# Altium footprint library WR-PHD_Pin Header.PcbLib: 232 footprints (part 13 of 15)
Each footprint in its own frame and in the unit in brackets; x right, y up, seen from the top. Pads: shape width x height; smd on the part's side, far side on the other; paste and mask are expansions set on the pad; w line width, h text height; cw(c..) or ccw(c..) is an arc to the next point about the centre after c.
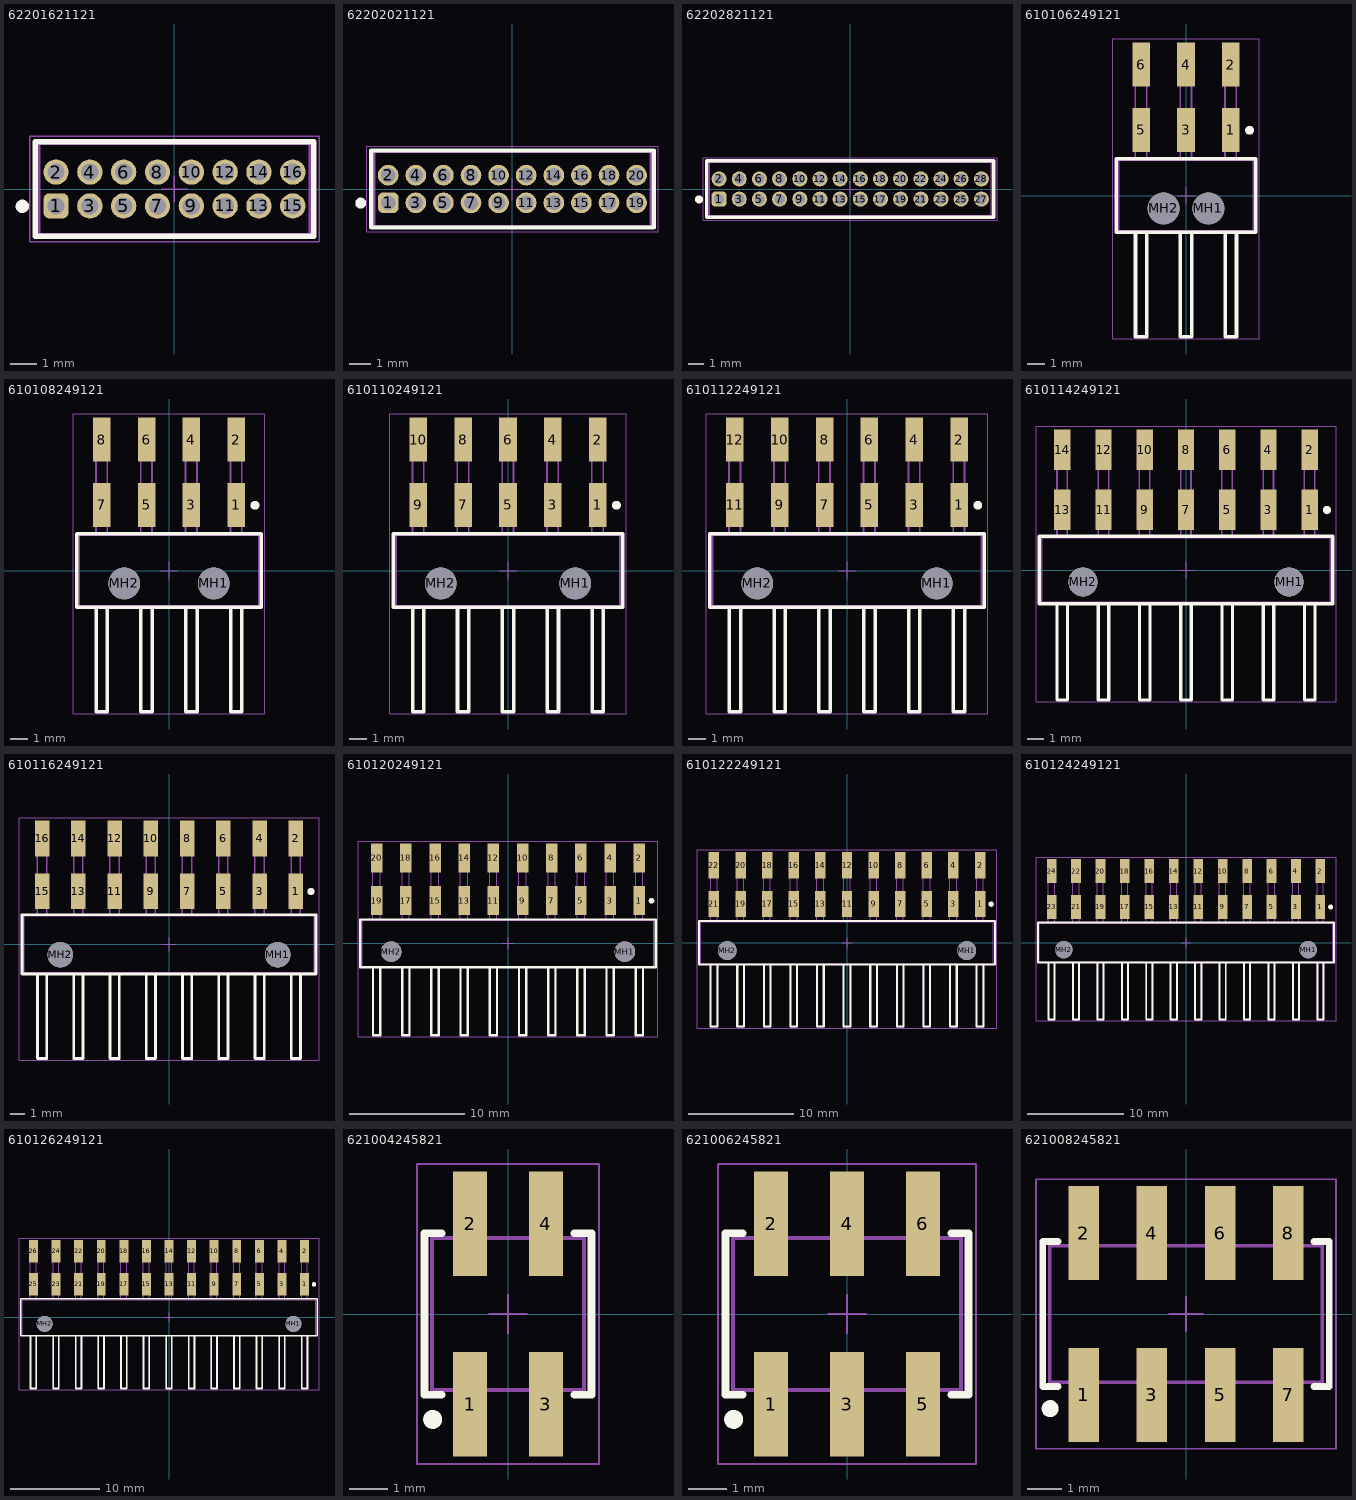
[diagram p12: the footprints below, top view; thin cyan lines are the x and y axes]

## 62201621121 [mm] "Pin Header, pitch 1.27 mm, THT, Vertical, dual row, 16p"
height 5.65
pads (16):
  rrect50% 0.95x0.95 hole 0.65: 1(-4.445,-0.635)
  round 0.95 hole 0.65: 2(-4.445,0.635) 3(-3.175,-0.635) 4(-3.175,0.635) 5(-1.905,-0.635) 6(-1.905,0.635) 7(-0.635,-0.635) 8(-0.635,0.635) 9(0.635,-0.635) 10(0.635,0.635) 11(1.905,-0.635) 12(1.905,0.635) 13(3.175,-0.635) 14(3.175,0.635) 15(4.445,-0.635) 16(4.445,0.635)
Top Overlay:
  circle w0.25: c-5.71,-0.65 r0.125
  lines w0.2: -5.23,-1.775 5.23,-1.775 5.23,1.775 -5.23,1.775 -5.23,-1.775
Top Designator:
  text ".Designator" at -7.498,-0.5 h1.5
Top Component Outline:
  lines w0.1: -5.08,-1.7 5.08,-1.7 5.08,1.7 -5.08,1.7 -5.08,-1.7
Top Courtyard:
  lines w0.05: -5.43,-1.975 5.43,-1.975 5.43,1.975 -5.43,1.975 -5.43,-1.975
Top Component Center:
  lines w0.05: -0.5,0 0.5,0 ; 0,-0.5 0,0.5
3D body "62201621121.stp": height 5.33, standoff -2.27, extent -5.08,-1.7 5.08,1.7

## 62202021121 [mm] "Pin Header, pitch 1.27 mm, THT, Vertical, dual row, 20p"
height 5.65
pads (20):
  rrect50% 0.95x0.95 hole 0.65: 1(-5.715,-0.635)
  round 0.95 hole 0.65: 2(-5.715,0.635) 3(-4.445,-0.635) 4(-4.445,0.635) 5(-3.175,-0.635) 6(-3.175,0.635) 7(-1.905,-0.635) 8(-1.905,0.635) 9(-0.635,-0.635) 10(-0.635,0.635) 11(0.635,-0.635) 12(0.635,0.635) 13(1.905,-0.635) 14(1.905,0.635) 15(3.175,-0.635) 16(3.175,0.635) 17(4.445,-0.635) 18(4.445,0.635) 19(5.715,-0.635) 20(5.715,0.635)
Top Overlay:
  circle w0.25: c-6.98,-0.65 r0.125
  lines w0.2: -6.5,-1.775 6.5,-1.775 6.5,1.775 -6.5,1.775 -6.5,-1.775
Top Designator:
  text ".Designator" at -7.498,-0.5 h1.5
Top Component Outline:
  lines w0.1: -6.35,-1.7 6.35,-1.7 6.35,1.7 -6.35,1.7 -6.35,-1.7
Top Courtyard:
  lines w0.05: -6.7,-1.975 6.7,-1.975 6.7,1.975 -6.7,1.975 -6.7,-1.975
Top Component Center:
  lines w0.05: -0.5,0 0.5,0 ; 0,-0.5 0,0.5
3D body "62202021121.stp": height 5.33, standoff -2.27, extent -6.35,-1.7 6.35,1.7

## 62202821121 [mm] "Pin Header, pitch 1.27 mm, THT, Vertical, dual row, 28p"
height 5.65
pads (28):
  rrect50% 0.95x0.95 hole 0.65: 1(-8.255,-0.635)
  round 0.95 hole 0.65: 2(-8.255,0.635) 3(-6.985,-0.635) 4(-6.985,0.635) 5(-5.715,-0.635) 6(-5.715,0.635) 7(-4.445,-0.635) 8(-4.445,0.635) 9(-3.175,-0.635) 10(-3.175,0.635) 11(-1.905,-0.635) 12(-1.905,0.635) 13(-0.635,-0.635) 14(-0.635,0.635) 15(0.635,-0.635) 16(0.635,0.635) 17(1.905,-0.635) 18(1.905,0.635) 19(3.175,-0.635) 20(3.175,0.635) 21(4.445,-0.635) 22(4.445,0.635) 23(5.715,-0.635) 24(5.715,0.635) 25(6.985,-0.635) 26(6.985,0.635) 27(8.255,-0.635) 28(8.255,0.635)
Top Overlay:
  circle w0.25: c-9.52,-0.65 r0.125
  lines w0.2: -9.04,-1.775 9.04,-1.775 9.04,1.775 -9.04,1.775 -9.04,-1.775
Top Designator:
  text ".Designator" at -7.498,-0.5 h1.5
Top Component Outline:
  lines w0.1: -8.89,-1.7 8.89,-1.7 8.89,1.7 -8.89,1.7 -8.89,-1.7
Top Courtyard:
  lines w0.05: -9.24,-1.975 9.24,-1.975 9.24,1.975 -9.24,1.975 -9.24,-1.975
Top Component Center:
  lines w0.05: -0.5,0 0.5,0 ; 0,-0.5 0,0.5
3D body "62202821121.stp": height 5.33, standoff -2.27, extent -8.89,-1.7 8.89,1.7

## 610106249121 [mm] "Pin Header, pitch 2.54 mm, SMD, Angled, dual row, 6p"
height 5.08
pads (8):
  rect 1x2.5 smd: 1(2.54,3.72) 2(2.54,7.42) 3(0,3.72) 4(0,7.42) 5(-2.54,3.72) 6(-2.54,7.42)
  round 1.8 hole 1.8 unplated: MH1(1.27,-0.73) MH2(-1.27,-0.73)
Top Overlay:
  circle w0.25: c3.6,3.7 r0.125
  lines w0.2: -2.86,-2.075 -2.86,-8 -2.22,-8 -2.22,-2.075 ; -0.32,-2.075 -0.32,-8 0.32,-8 0.32,-2.075 ; 2.22,-2.075 2.22,-8 2.86,-8 2.86,-2.075 ; -3.96,-2.075 -3.96,2.075 3.96,2.075 3.96,-2.075 -3.96,-2.075
Top Designator:
  text ".Designator" at -7.498,-0.5 h1.5
Top Component Outline:
  lines w0.1: -2.87,2 -2.87,8.16 ; -2.87,4.135 -2.87,4.26 ; -2.87,4.48 -2.23,4.48 ; -2.87,7.535 -2.87,7.815 -2.87,8.16 ; -2.86,-2 -2.86,-8 -2.22,-8 -2.22,-2 ; -2.23,2 -2.23,8.16 ; -2.23,4.135 -2.23,4.26 ; -2.23,7.535 -2.23,7.815 -2.23,8.16 ; -0.33,2 -0.33,8.16 ; -0.33,4.135 -0.33,4.26 ; -0.33,4.48 0.31,4.48 ; -0.33,7.535 -0.33,7.815 -0.33,8.16 ; -0.32,-2 -0.32,-8 0.32,-8 0.32,-2 ; 0.31,2 0.31,8.16 ; 0.31,4.135 0.31,4.26 ; 0.31,7.535 0.31,7.815 0.31,8.16 ; 2.21,2 2.21,8.16 ; 2.21,4.135 2.21,4.26 ; 2.21,4.48 2.85,4.48 ; 2.21,7.535 2.21,7.815 2.21,8.16 ; 2.22,-2 2.22,-8 2.86,-8 2.86,-2 ; 2.85,2 2.85,8.16 ; 2.85,4.135 2.85,4.26 ; 2.85,7.535 2.85,7.815 2.85,8.16 ; -2.87,8.16 -2.23,8.16 ; -0.33,8.16 0.31,8.16 ; 2.21,8.16 2.85,8.16 ; -3.81,-2 3.81,-2 3.81,2 -3.81,2 -3.81,-2
Top Courtyard:
  lines w0.05: -4.16,-8.125 -4.16,8.87 4.16,8.87 4.16,-8.125 -4.16,-8.125
Top Component Center:
  lines w0.05: -0.5,0 0.5,0 ; 0,-0.5 0,0.5
3D body "610106249121.stp": height 5.1, standoff -1.38, extent -3.81,-8 3.81,8.16

## 610108249121 [mm] "Pin Header, pitch 2.54 mm, SMD, Angled, dual row, 8p"
height 5.08
pads (10):
  rect 1x2.5 smd: 1(3.81,3.72) 2(3.81,7.42) 3(1.27,3.72) 4(1.27,7.42) 5(-1.27,3.72) 6(-1.27,7.42) 7(-3.81,3.72) 8(-3.81,7.42)
  round 1.8 hole 1.8 unplated: MH1(2.54,-0.73) MH2(-2.54,-0.73)
Top Overlay:
  circle w0.25: c4.87,3.7 r0.125
  lines w0.2: -4.13,-2.075 -4.13,-8 -3.49,-8 -3.49,-2.075 ; -1.59,-2.075 -1.59,-8 -0.95,-8 -0.95,-2.075 ; 0.95,-2.075 0.95,-8 1.59,-8 1.59,-2.075 ; 3.49,-2.075 3.49,-8 4.13,-8 4.13,-2.075 ; -5.23,-2.075 5.23,-2.075 5.23,2.075 -5.23,2.075 -5.23,-2.075
Top Designator:
  text ".Designator" at -7.498,-0.5 h1.5
Top Component Outline:
  lines w0.1: -4.14,2 -4.14,8.16 ; -4.14,4.135 -4.14,4.26 ; -4.14,4.48 -3.5,4.48 ; -4.14,7.535 -4.14,7.815 -4.14,8.16 ; -4.13,-2 -4.13,-8 -3.49,-8 -3.49,-2 ; -3.5,2 -3.5,8.16 ; -3.5,4.135 -3.5,4.26 ; -3.5,7.535 -3.5,7.815 -3.5,8.16 ; -1.6,2 -1.6,8.16 ; -1.6,4.135 -1.6,4.26 ; -1.6,4.48 -0.96,4.48 ; -1.6,7.535 -1.6,7.815 -1.6,8.16 ; -1.59,-2 -1.59,-8 -0.95,-8 -0.95,-2 ; -0.96,2 -0.96,8.16 ; -0.96,4.135 -0.96,4.26 ; -0.96,7.535 -0.96,7.815 -0.96,8.16 ; 0.94,2 0.94,8.16 ; 0.94,4.135 0.94,4.26 ; 0.94,4.48 1.58,4.48 ; 0.94,7.535 0.94,7.815 0.94,8.16 ; 0.95,-2 0.95,-8 1.59,-8 1.59,-2 ; 1.58,2 1.58,8.16 ; 1.58,4.135 1.58,4.26 ; 1.58,7.535 1.58,7.815 1.58,8.16 ; 3.48,2 3.48,8.16 ; 3.48,4.135 3.48,4.26 ; 3.48,4.48 4.12,4.48 ; 3.48,7.535 3.48,7.815 3.48,8.16 ; 3.49,-2 3.49,-8 4.13,-8 4.13,-2 ; 4.12,2 4.12,8.16 ; 4.12,4.135 4.12,4.26 ; 4.12,7.535 4.12,7.815 4.12,8.16 ; -4.14,8.16 -3.5,8.16 ; -1.6,8.16 -0.96,8.16 ; 0.94,8.16 1.58,8.16 ; 3.48,8.16 4.12,8.16 ; -5.08,-2 5.08,-2 5.08,2 -5.08,2 -5.08,-2
Top Courtyard:
  lines w0.05: -5.43,-8.125 5.43,-8.125 5.43,8.87 -5.43,8.87 -5.43,-8.125
Top Component Center:
  lines w0.05: -0.5,0 0.5,0 ; 0,-0.5 0,0.5
3D body "610108249121.stp": height 5.1, standoff -1.38, extent -5.08,-8 5.08,8.16

## 610110249121 [mm] "Pin Header, pitch 2.54 mm, SMD, Angled, dual row, 10p"
height 5.08
pads (12):
  rect 1x2.5 smd: 1(5.08,3.72) 2(5.08,7.42) 3(2.54,3.72) 4(2.54,7.42) 5(0,3.72) 6(0,7.42) 7(-2.54,3.72) 8(-2.54,7.42) 9(-5.08,3.72) 10(-5.08,7.42)
  round 1.8 hole 1.8 unplated: MH1(3.81,-0.73) MH2(-3.81,-0.73)
Top Overlay:
  circle w0.25: c6.14,3.7 r0.125
  lines w0.2: -5.4,-2.075 -5.4,-8 -4.76,-8 -4.76,-2.075 ; -2.86,-2.075 -2.86,-8 -2.22,-8 -2.22,-2.075 ; -0.32,-2.075 -0.32,-8 0.32,-8 0.32,-2.075 ; 2.22,-2.075 2.22,-8 2.86,-8 2.86,-2.075 ; 4.76,-2.075 4.76,-8 5.4,-8 5.4,-2.075 ; -6.5,-2.075 -6.5,2.075 6.5,2.075 6.5,-2.075 -6.5,-2.075
Top Designator:
  text ".Designator" at -7.498,-0.5 h1.5
Top Component Outline:
  lines w0.1: -5.41,2 -5.41,8.16 ; -5.41,4.135 -5.41,4.26 ; -5.41,4.48 -4.77,4.48 ; -5.41,7.535 -5.41,7.815 -5.41,8.16 ; -5.4,-2 -5.4,-8 -4.76,-8 -4.76,-2 ; -4.77,2 -4.77,8.16 ; -4.77,4.135 -4.77,4.26 ; -4.77,7.535 -4.77,7.815 -4.77,8.16 ; -2.87,2 -2.87,8.16 ; -2.87,4.135 -2.87,4.26 ; -2.87,4.48 -2.23,4.48 ; -2.87,7.535 -2.87,7.815 -2.87,8.16 ; -2.86,-2 -2.86,-8 -2.22,-8 -2.22,-2 ; -2.23,2 -2.23,8.16 ; -2.23,4.135 -2.23,4.26 ; -2.23,7.535 -2.23,7.815 -2.23,8.16 ; -0.33,2 -0.33,8.16 ; -0.33,4.135 -0.33,4.26 ; -0.33,4.48 0.31,4.48 ; -0.33,7.535 -0.33,7.815 -0.33,8.16 ; -0.32,-2 -0.32,-8 0.32,-8 0.32,-2 ; 0.31,2 0.31,8.16 ; 0.31,4.135 0.31,4.26 ; 0.31,7.535 0.31,7.815 0.31,8.16 ; 2.21,2 2.21,8.16 ; 2.21,4.135 2.21,4.26 ; 2.21,4.48 2.85,4.48 ; 2.21,7.535 2.21,7.815 2.21,8.16 ; 2.22,-2 2.22,-8 2.86,-8 2.86,-2 ; 2.85,2 2.85,8.16 ; 2.85,4.135 2.85,4.26 ; 2.85,7.535 2.85,7.815 2.85,8.16 ; 4.75,2 4.75,8.16 ; 4.75,4.135 4.75,4.26 ; 4.75,4.48 5.39,4.48 ; 4.75,7.535 4.75,7.815 4.75,8.16 ; 4.76,-2 4.76,-8 5.4,-8 5.4,-2 ; 5.39,2 5.39,8.16 ; 5.39,4.135 5.39,4.26 ; 5.39,7.535 5.39,7.815 5.39,8.16 ; -5.41,8.16 -4.77,8.16 ; -2.87,8.16 -2.23,8.16 ; -0.33,8.16 0.31,8.16 ; 2.21,8.16 2.85,8.16 ; 4.75,8.16 5.39,8.16 ; -6.35,-2 6.35,-2 6.35,2 -6.35,2 -6.35,-2
Top Courtyard:
  lines w0.05: -6.7,-8.125 -6.7,8.87 6.7,8.87 6.7,-8.125 -6.7,-8.125
Top Component Center:
  lines w0.05: -0.5,0 0.5,0 ; 0,-0.5 0,0.5
3D body "610110249121.stp": height 5.1, standoff -1.38, extent -6.35,-8 6.35,8.16

## 610112249121 [mm] "Pin Header, pitch 2.54 mm, SMD, Angled, dual row, 12p"
height 5.08
pads (14):
  rect 1x2.5 smd: 1(6.35,3.72) 2(6.35,7.42) 3(3.81,3.72) 4(3.81,7.42) 5(1.27,3.72) 6(1.27,7.42) 7(-1.27,3.72) 8(-1.27,7.42) 9(-3.81,3.72) 10(-3.81,7.42) 11(-6.35,3.72) 12(-6.35,7.42)
  round 1.8 hole 1.8 unplated: MH1(5.08,-0.73) MH2(-5.08,-0.73)
Top Overlay:
  circle w0.25: c7.41,3.7 r0.125
  lines w0.2: -6.67,-2.075 -6.67,-8 -6.03,-8 -6.03,-2.075 ; -4.13,-2.075 -4.13,-8 -3.49,-8 -3.49,-2.075 ; -1.59,-2.075 -1.59,-8 -0.95,-8 -0.95,-2.075 ; 0.95,-2.075 0.95,-8 1.59,-8 1.59,-2.075 ; 3.49,-2.075 3.49,-8 4.13,-8 4.13,-2.075 ; 6.03,-2.075 6.03,-8 6.67,-8 6.67,-2.075 ; -7.77,-2.075 7.77,-2.075 7.77,2.075 -7.77,2.075 -7.77,-2.075
Top Designator:
  text ".Designator" at -7.498,-0.5 h1.5
Top Component Outline:
  lines w0.1: -6.68,2 -6.68,8.16 ; -6.68,4.135 -6.68,4.26 ; -6.68,4.48 -6.04,4.48 ; -6.68,7.535 -6.68,7.815 -6.68,8.16 ; -6.67,-2 -6.67,-8 -6.03,-8 -6.03,-2 ; -6.04,2 -6.04,8.16 ; -6.04,4.135 -6.04,4.26 ; -6.04,7.535 -6.04,7.815 -6.04,8.16 ; -4.14,2 -4.14,8.16 ; -4.14,4.135 -4.14,4.26 ; -4.14,4.48 -3.5,4.48 ; -4.14,7.535 -4.14,7.815 -4.14,8.16 ; -4.13,-2 -4.13,-8 -3.49,-8 -3.49,-2 ; -3.5,2 -3.5,8.16 ; -3.5,4.135 -3.5,4.26 ; -3.5,7.535 -3.5,7.815 -3.5,8.16 ; -1.6,2 -1.6,8.16 ; -1.6,4.135 -1.6,4.26 ; -1.6,4.48 -0.96,4.48 ; -1.6,7.535 -1.6,7.815 -1.6,8.16 ; -1.59,-2 -1.59,-8 -0.95,-8 -0.95,-2 ; -0.96,2 -0.96,8.16 ; -0.96,4.135 -0.96,4.26 ; -0.96,7.535 -0.96,7.815 -0.96,8.16 ; 0.94,2 0.94,8.16 ; 0.94,4.135 0.94,4.26 ; 0.94,4.48 1.58,4.48 ; 0.94,7.535 0.94,7.815 0.94,8.16 ; 0.95,-2 0.95,-8 1.59,-8 1.59,-2 ; 1.58,2 1.58,8.16 ; 1.58,4.135 1.58,4.26 ; 1.58,7.535 1.58,7.815 1.58,8.16 ; 3.48,2 3.48,8.16 ; 3.48,4.135 3.48,4.26 ; 3.48,4.48 4.12,4.48 ; 3.48,7.535 3.48,7.815 3.48,8.16 ; 3.49,-2 3.49,-8 4.13,-8 4.13,-2 ; 4.12,2 4.12,8.16 ; 4.12,4.135 4.12,4.26 ; 4.12,7.535 4.12,7.815 4.12,8.16 ; 6.02,2 6.02,8.16 ; 6.02,4.135 6.02,4.26 ; 6.02,4.48 6.66,4.48 ; 6.02,7.535 6.02,7.815 6.02,8.16 ; 6.03,-2 6.03,-8 6.67,-8 6.67,-2 ; 6.66,2 6.66,8.16 ; 6.66,4.135 6.66,4.26 ; 6.66,7.535 6.66,7.815 6.66,8.16 ; -6.68,8.16 -6.04,8.16 ; -4.14,8.16 -3.5,8.16 ; -1.6,8.16 -0.96,8.16 ; 0.94,8.16 1.58,8.16 ; 3.48,8.16 4.12,8.16 ; 6.02,8.16 6.66,8.16 ; -7.62,-2 -7.62,2 7.62,2 7.62,-2 -7.62,-2
Top Courtyard:
  lines w0.05: -7.97,-8.125 7.97,-8.125 7.97,8.87 -7.97,8.87 -7.97,-8.125
Top Component Center:
  lines w0.05: -0.5,0 0.5,0 ; 0,-0.5 0,0.5
3D body "610112249121.stp": height 5.1, standoff -1.38, extent -7.62,-8 7.62,8.16

## 610114249121 [mm] "Pin Header, pitch 2.54 mm, SMD, Angled, dual row, 14p"
height 5.08
pads (16):
  rect 1x2.5 smd: 1(7.62,3.72) 2(7.62,7.42) 3(5.08,3.72) 4(5.08,7.42) 5(2.54,3.72) 6(2.54,7.42) 7(0,3.72) 8(0,7.42) 9(-2.54,3.72) 10(-2.54,7.42) 11(-5.08,3.72) 12(-5.08,7.42) 13(-7.62,3.72) 14(-7.62,7.42)
  round 1.8 hole 1.8 unplated: MH1(6.35,-0.73) MH2(-6.35,-0.73)
Top Overlay:
  circle w0.25: c8.68,3.7 r0.125
  lines w0.2: -7.94,-2.075 -7.94,-8 -7.3,-8 -7.3,-2.075 ; -5.4,-2.075 -5.4,-8 -4.76,-8 -4.76,-2.075 ; -2.86,-2.075 -2.86,-8 -2.22,-8 -2.22,-2.075 ; -0.32,-2.075 -0.32,-8 0.32,-8 0.32,-2.075 ; 2.22,-2.075 2.22,-8 2.86,-8 2.86,-2.075 ; 4.76,-2.075 4.76,-8 5.4,-8 5.4,-2.075 ; 7.3,-2.075 7.3,-8 7.94,-8 7.94,-2.075 ; -9.04,-2.075 9.04,-2.075 9.04,2.075 -9.04,2.075 -9.04,-2.075
Top Designator:
  text ".Designator" at -7.498,-0.5 h1.5
Top Component Outline:
  lines w0.1: -7.95,2 -7.95,8.16 ; -7.95,4.135 -7.95,4.26 ; -7.95,4.48 -7.31,4.48 ; -7.95,7.535 -7.95,7.815 -7.95,8.16 ; -7.94,-2 -7.94,-8 -7.3,-8 -7.3,-2 ; -7.31,2 -7.31,8.16 ; -7.31,4.135 -7.31,4.26 ; -7.31,7.535 -7.31,7.815 -7.31,8.16 ; -5.41,2 -5.41,8.16 ; -5.41,4.135 -5.41,4.26 ; -5.41,4.48 -4.77,4.48 ; -5.41,7.535 -5.41,7.815 -5.41,8.16 ; -5.4,-2 -5.4,-8 -4.76,-8 -4.76,-2 ; -4.77,2 -4.77,8.16 ; -4.77,4.135 -4.77,4.26 ; -4.77,7.535 -4.77,7.815 -4.77,8.16 ; -2.87,2 -2.87,8.16 ; -2.87,4.135 -2.87,4.26 ; -2.87,4.48 -2.23,4.48 ; -2.87,7.535 -2.87,7.815 -2.87,8.16 ; -2.86,-2 -2.86,-8 -2.22,-8 -2.22,-2 ; -2.23,2 -2.23,8.16 ; -2.23,4.135 -2.23,4.26 ; -2.23,7.535 -2.23,7.815 -2.23,8.16 ; -0.33,2 -0.33,8.16 ; -0.33,4.135 -0.33,4.26 ; -0.33,4.48 0.31,4.48 ; -0.33,7.535 -0.33,7.815 -0.33,8.16 ; -0.32,-2 -0.32,-8 0.32,-8 0.32,-2 ; 0.31,2 0.31,8.16 ; 0.31,4.135 0.31,4.26 ; 0.31,7.535 0.31,7.815 0.31,8.16 ; 2.21,2 2.21,8.16 ; 2.21,4.135 2.21,4.26 ; 2.21,4.48 2.85,4.48 ; 2.21,7.535 2.21,7.815 2.21,8.16 ; 2.22,-2 2.22,-8 2.86,-8 2.86,-2 ; 2.85,2 2.85,8.16 ; 2.85,4.135 2.85,4.26 ; 2.85,7.535 2.85,7.815 2.85,8.16 ; 4.75,2 4.75,8.16 ; 4.75,4.135 4.75,4.26 ; 4.75,4.48 5.39,4.48 ; 4.75,7.535 4.75,7.815 4.75,8.16 ; 4.76,-2 4.76,-8 5.4,-8 5.4,-2 ; 5.39,2 5.39,8.16 ; 5.39,4.135 5.39,4.26 ; 5.39,7.535 5.39,7.815 5.39,8.16 ; 7.29,2 7.29,8.16 ; 7.29,4.135 7.29,4.26 ; 7.29,4.48 7.93,4.48 ; 7.29,7.535 7.29,7.815 7.29,8.16 ; 7.3,-2 7.3,-8 7.94,-8 7.94,-2 ; 7.93,2 7.93,8.16 ; 7.93,4.135 7.93,4.26 ; 7.93,7.535 7.93,7.815 7.93,8.16 ; -7.95,8.16 -7.31,8.16 ; -5.41,8.16 -4.77,8.16 ; -2.87,8.16 -2.23,8.16 ; -0.33,8.16 0.31,8.16 ; 2.21,8.16 2.85,8.16 ; 4.75,8.16 5.39,8.16 ; 7.29,8.16 7.93,8.16 ; -8.89,-2 -8.89,2 8.89,2 8.89,-2 -8.89,-2
Top Courtyard:
  lines w0.05: -9.24,-8.125 9.24,-8.125 9.24,8.87 -9.24,8.87 -9.24,-8.125
Top Component Center:
  lines w0.05: -0.5,0 0.5,0 ; 0,-0.5 0,0.5
3D body "610114249121.stp": height 5.1, standoff -1.38, extent -8.89,-8 8.89,8.16

## 610116249121 [mm] "Pin Header, pitch 2.54 mm, SMD, Angled, dual row, 16p"
height 5.08
pads (18):
  rect 1x2.5 smd: 1(8.89,3.72) 2(8.89,7.42) 3(6.35,3.72) 4(6.35,7.42) 5(3.81,3.72) 6(3.81,7.42) 7(1.27,3.72) 8(1.27,7.42) 9(-1.27,3.72) 10(-1.27,7.42) 11(-3.81,3.72) 12(-3.81,7.42) 13(-6.35,3.72) 14(-6.35,7.42) 15(-8.89,3.72) 16(-8.89,7.42)
  round 1.8 hole 1.8 unplated: MH1(7.62,-0.73) MH2(-7.62,-0.73)
Top Overlay:
  circle w0.25: c9.95,3.7 r0.125
  lines w0.2: -9.21,-2.075 -9.21,-8 -8.57,-8 -8.57,-2.075 ; -6.67,-2.075 -6.67,-8 -6.03,-8 -6.03,-2.075 ; -4.13,-2.075 -4.13,-8 -3.49,-8 -3.49,-2.075 ; -1.59,-2.075 -1.59,-8 -0.95,-8 -0.95,-2.075 ; 0.95,-2.075 0.95,-8 1.59,-8 1.59,-2.075 ; 3.49,-2.075 3.49,-8 4.13,-8 4.13,-2.075 ; 6.03,-2.075 6.03,-8 6.67,-8 6.67,-2.075 ; 8.57,-2.075 8.57,-8 9.21,-8 9.21,-2.075 ; -10.31,-2.075 -10.31,2.075 10.31,2.075 10.31,-2.075 -10.31,-2.075
Top Designator:
  text ".Designator" at -7.498,-0.5 h1.5
Top Component Outline:
  lines w0.1: -9.22,2 -9.22,8.16 ; -9.22,4.135 -9.22,4.26 ; -9.22,4.48 -8.58,4.48 ; -9.22,7.535 -9.22,7.815 -9.22,8.16 ; -9.21,-2 -9.21,-8 -8.57,-8 -8.57,-2 ; -8.58,2 -8.58,8.16 ; -8.58,4.135 -8.58,4.26 ; -8.58,7.535 -8.58,7.815 -8.58,8.16 ; -6.68,2 -6.68,8.16 ; -6.68,4.135 -6.68,4.26 ; -6.68,4.48 -6.04,4.48 ; -6.68,7.535 -6.68,7.815 -6.68,8.16 ; -6.67,-2 -6.67,-8 -6.03,-8 -6.03,-2 ; -6.04,2 -6.04,8.16 ; -6.04,4.135 -6.04,4.26 ; -6.04,7.535 -6.04,7.815 -6.04,8.16 ; -4.14,2 -4.14,8.16 ; -4.14,4.135 -4.14,4.26 ; -4.14,4.48 -3.5,4.48 ; -4.14,7.535 -4.14,7.815 -4.14,8.16 ; -4.13,-2 -4.13,-8 -3.49,-8 -3.49,-2 ; -3.5,2 -3.5,8.16 ; -3.5,4.135 -3.5,4.26 ; -3.5,7.535 -3.5,7.815 -3.5,8.16 ; -1.6,2 -1.6,8.16 ; -1.6,4.135 -1.6,4.26 ; -1.6,4.48 -0.96,4.48 ; -1.6,7.535 -1.6,7.815 -1.6,8.16 ; -1.59,-2 -1.59,-8 -0.95,-8 -0.95,-2 ; -0.96,2 -0.96,8.16 ; -0.96,4.135 -0.96,4.26 ; -0.96,7.535 -0.96,7.815 -0.96,8.16 ; 0.94,2 0.94,8.16 ; 0.94,4.135 0.94,4.26 ; 0.94,4.48 1.58,4.48 ; 0.94,7.535 0.94,7.815 0.94,8.16 ; 0.95,-2 0.95,-8 1.59,-8 1.59,-2 ; 1.58,2 1.58,8.16 ; 1.58,4.135 1.58,4.26 ; 1.58,7.535 1.58,7.815 1.58,8.16 ; 3.48,2 3.48,8.16 ; 3.48,4.135 3.48,4.26 ; 3.48,4.48 4.12,4.48 ; 3.48,7.535 3.48,7.815 3.48,8.16 ; 3.49,-2 3.49,-8 4.13,-8 4.13,-2 ; 4.12,2 4.12,8.16 ; 4.12,4.135 4.12,4.26 ; 4.12,7.535 4.12,7.815 4.12,8.16 ; 6.02,2 6.02,8.16 ; 6.02,4.135 6.02,4.26 ; 6.02,4.48 6.66,4.48 ; 6.02,7.535 6.02,7.815 6.02,8.16 ; 6.03,-2 6.03,-8 6.67,-8 6.67,-2 ; 6.66,2 6.66,8.16 ; 6.66,4.135 6.66,4.26 ; 6.66,7.535 6.66,7.815 6.66,8.16 ; 8.56,2 8.56,8.16 ; 8.56,4.135 8.56,4.26 ; 8.56,4.48 9.2,4.48 ; 8.56,7.535 8.56,7.815 8.56,8.16 ; 8.57,-2 8.57,-8 9.21,-8 9.21,-2 ; 9.2,2 9.2,8.16 ; 9.2,4.135 9.2,4.26 ; 9.2,7.535 9.2,7.815 9.2,8.16 ; -9.22,8.16 -8.58,8.16 ; -6.68,8.16 -6.04,8.16 ; -4.14,8.16 -3.5,8.16 ; -1.6,8.16 -0.96,8.16 ; 0.94,8.16 1.58,8.16 ; 3.48,8.16 4.12,8.16 ; 6.02,8.16 6.66,8.16 ; 8.56,8.16 9.2,8.16 ; -10.16,-2 -10.16,2 10.16,2 10.16,-2 -10.16,-2
Top Courtyard:
  lines w0.05: -10.51,-8.125 -10.51,8.87 10.51,8.87 10.51,-8.125 -10.51,-8.125
Top Component Center:
  lines w0.05: -0.5,0 0.5,0 ; 0,-0.5 0,0.5
3D body "610116249121.stp": height 5.1, standoff -1.38, extent -10.16,-8 10.16,8.16

## 610120249121 [mm] "Pin Header, pitch 2.54 mm, SMD, Angled, dual row, 20p"
height 5.08
pads (22):
  rect 1x2.5 smd: 1(11.43,3.72) 2(11.43,7.42) 3(8.89,3.72) 4(8.89,7.42) 5(6.35,3.72) 6(6.35,7.42) 7(3.81,3.72) 8(3.81,7.42) 9(1.27,3.72) 10(1.27,7.42) 11(-1.27,3.72) 12(-1.27,7.42) 13(-3.81,3.72) 14(-3.81,7.42) 15(-6.35,3.72) 16(-6.35,7.42) 17(-8.89,3.72) 18(-8.89,7.42) 19(-11.43,3.72) 20(-11.43,7.42)
  round 1.8 hole 1.8 unplated: MH1(10.16,-0.73) MH2(-10.16,-0.73)
Top Overlay:
  circle w0.25: c12.49,3.7 r0.125
  lines w0.2: -11.75,-2.075 -11.75,-8 -11.11,-8 -11.11,-2.075 ; -9.21,-2.075 -9.21,-8 -8.57,-8 -8.57,-2.075 ; -6.67,-2.075 -6.67,-8 -6.03,-8 -6.03,-2.075 ; -4.13,-2.075 -4.13,-8 -3.49,-8 -3.49,-2.075 ; -1.59,-2.075 -1.59,-8 -0.95,-8 -0.95,-2.075 ; 0.95,-2.075 0.95,-8 1.59,-8 1.59,-2.075 ; 3.49,-2.075 3.49,-8 4.13,-8 4.13,-2.075 ; 6.03,-2.075 6.03,-8 6.67,-8 6.67,-2.075 ; 8.57,-2.075 8.57,-8 9.21,-8 9.21,-2.075 ; 11.11,-2.075 11.11,-8 11.75,-8 11.75,-2.075 ; -12.85,-2.075 -12.85,2.075 12.85,2.075 12.85,-2.075 -12.85,-2.075
Top Designator:
  text ".Designator" at -7.498,-0.5 h1.5
Top Component Outline:
  lines w0.1: -11.76,2 -11.76,8.16 ; -11.76,4.135 -11.76,4.26 ; -11.76,4.48 -11.12,4.48 ; -11.76,7.535 -11.76,7.815 -11.76,8.16 ; -11.75,-2 -11.75,-8 -11.11,-8 -11.11,-2 ; -11.12,2 -11.12,8.16 ; -11.12,4.135 -11.12,4.26 ; -11.12,7.535 -11.12,7.815 -11.12,8.16 ; -9.22,2 -9.22,8.16 ; -9.22,4.135 -9.22,4.26 ; -9.22,4.48 -8.58,4.48 ; -9.22,7.535 -9.22,7.815 -9.22,8.16 ; -9.21,-2 -9.21,-8 -8.57,-8 -8.57,-2 ; -8.58,2 -8.58,8.16 ; -8.58,4.135 -8.58,4.26 ; -8.58,7.535 -8.58,7.815 -8.58,8.16 ; -6.68,2 -6.68,8.16 ; -6.68,4.135 -6.68,4.26 ; -6.68,4.48 -6.04,4.48 ; -6.68,7.535 -6.68,7.815 -6.68,8.16 ; -6.67,-2 -6.67,-8 -6.03,-8 -6.03,-2 ; -6.04,2 -6.04,8.16 ; -6.04,4.135 -6.04,4.26 ; -6.04,7.535 -6.04,7.815 -6.04,8.16 ; -4.14,2 -4.14,8.16 ; -4.14,4.135 -4.14,4.26 ; -4.14,4.48 -3.5,4.48 ; -4.14,7.535 -4.14,7.815 -4.14,8.16 ; -4.13,-2 -4.13,-8 -3.49,-8 -3.49,-2 ; -3.5,2 -3.5,8.16 ; -3.5,4.135 -3.5,4.26 ; -3.5,7.535 -3.5,7.815 -3.5,8.16 ; -1.6,2 -1.6,8.16 ; -1.6,4.135 -1.6,4.26 ; -1.6,4.48 -0.96,4.48 ; -1.6,7.535 -1.6,7.815 -1.6,8.16 ; -1.59,-2 -1.59,-8 -0.95,-8 -0.95,-2 ; -0.96,2 -0.96,8.16 ; -0.96,4.135 -0.96,4.26 ; -0.96,7.535 -0.96,7.815 -0.96,8.16 ; 0.94,2 0.94,8.16 ; 0.94,4.135 0.94,4.26 ; 0.94,4.48 1.58,4.48 ; 0.94,7.535 0.94,7.815 0.94,8.16 ; 0.95,-2 0.95,-8 1.59,-8 1.59,-2 ; 1.58,2 1.58,8.16 ; 1.58,4.135 1.58,4.26 ; 1.58,7.535 1.58,7.815 1.58,8.16 ; 3.48,2 3.48,8.16 ; 3.48,4.135 3.48,4.26 ; 3.48,4.48 4.12,4.48 ; 3.48,7.535 3.48,7.815 3.48,8.16 ; 3.49,-2 3.49,-8 4.13,-8 4.13,-2 ; 4.12,2 4.12,8.16 ; 4.12,4.135 4.12,4.26 ; 4.12,7.535 4.12,7.815 4.12,8.16 ; 6.02,2 6.02,8.16 ; 6.02,4.135 6.02,4.26 ; 6.02,4.48 6.66,4.48 ; 6.02,7.535 6.02,7.815 6.02,8.16 ; 6.03,-2 6.03,-8 6.67,-8 6.67,-2 ; 6.66,2 6.66,8.16 ; 6.66,4.135 6.66,4.26 ; 6.66,7.535 6.66,7.815 6.66,8.16 ; 8.56,2 8.56,8.16 ; 8.56,4.135 8.56,4.26 ; 8.56,4.48 9.2,4.48 ; 8.56,7.535 8.56,7.815 8.56,8.16 ; 8.57,-2 8.57,-8 9.21,-8 9.21,-2 ; 9.2,2 9.2,8.16 ; 9.2,4.135 9.2,4.26 ; 9.2,7.535 9.2,7.815 9.2,8.16 ; 11.1,2 11.1,8.16 ; 11.1,4.135 11.1,4.26 ; 11.1,4.48 11.74,4.48 ; 11.1,7.535 11.1,7.815 11.1,8.16 ; 11.11,-2 11.11,-8 11.75,-8 11.75,-2 ; 11.74,2 11.74,8.16 ; 11.74,4.135 11.74,4.26 ; 11.74,7.535 11.74,7.815 11.74,8.16 ; -11.76,8.16 -11.12,8.16 ; -9.22,8.16 -8.58,8.16 ; -6.68,8.16 -6.04,8.16 ; -4.14,8.16 -3.5,8.16 ; -1.6,8.16 -0.96,8.16 ; 0.94,8.16 1.58,8.16 ; 3.48,8.16 4.12,8.16 ; 6.02,8.16 6.66,8.16 ; 8.56,8.16 9.2,8.16 ; 11.1,8.16 11.74,8.16 ; -12.7,-2 -12.7,2 12.7,2 12.7,-2 -12.7,-2
Top Courtyard:
  lines w0.05: -13.05,-8.125 -13.05,8.87 13.05,8.87 13.05,-8.125 -13.05,-8.125
Top Component Center:
  lines w0.05: -0.5,0 0.5,0 ; 0,-0.5 0,0.5
3D body "610120249121.stp": height 5.1, standoff -1.38, extent -12.7,-8 12.7,8.16

## 610122249121 [mm] "Pin Header, pitch 2.54 mm, SMD, Angled, dual row, 22p"
height 5.08
pads (24):
  rect 1x2.5 smd: 1(12.7,3.72) 2(12.7,7.42) 3(10.16,3.72) 4(10.16,7.42) 5(7.62,3.72) 6(7.62,7.42) 7(5.08,3.72) 8(5.08,7.42) 9(2.54,3.72) 10(2.54,7.42) 11(0,3.72) 12(0,7.42) 13(-2.54,3.72) 14(-2.54,7.42) 15(-5.08,3.72) 16(-5.08,7.42) 17(-7.62,3.72) 18(-7.62,7.42) 19(-10.16,3.72) 20(-10.16,7.42) 21(-12.7,3.72) 22(-12.7,7.42)
  round 1.8 hole 1.8 unplated: MH1(11.43,-0.73) MH2(-11.43,-0.73)
Top Overlay:
  circle w0.25: c13.76,3.7 r0.125
  lines w0.2: -13.02,-2.075 -13.02,-8 -12.38,-8 -12.38,-2.075 ; -10.48,-2.075 -10.48,-8 -9.84,-8 -9.84,-2.075 ; -7.94,-2.075 -7.94,-8 -7.3,-8 -7.3,-2.075 ; -5.4,-2.075 -5.4,-8 -4.76,-8 -4.76,-2.075 ; -2.86,-2.075 -2.86,-8 -2.22,-8 -2.22,-2.075 ; -0.32,-2.075 -0.32,-8 0.32,-8 0.32,-2.075 ; 2.22,-2.075 2.22,-8 2.86,-8 2.86,-2.075 ; 4.76,-2.075 4.76,-8 5.4,-8 5.4,-2.075 ; 7.3,-2.075 7.3,-8 7.94,-8 7.94,-2.075 ; 9.84,-2.075 9.84,-8 10.48,-8 10.48,-2.075 ; 12.38,-2.075 12.38,-8 13.02,-8 13.02,-2.075 ; -14.12,-2.075 14.12,-2.075 14.12,2.075 -14.12,2.075 -14.12,-2.075
Top Designator:
  text ".Designator" at -7.498,-0.5 h1.5
Top Component Outline:
  lines w0.1: -13.03,2 -13.03,8.16 ; -13.03,4.135 -13.03,4.26 ; -13.03,4.48 -12.39,4.48 ; -13.03,7.535 -13.03,7.815 -13.03,8.16 ; -13.02,-2 -13.02,-8 -12.38,-8 -12.38,-2 ; -12.39,2 -12.39,8.16 ; -12.39,4.135 -12.39,4.26 ; -12.39,7.535 -12.39,7.815 -12.39,8.16 ; -10.49,2 -10.49,8.16 ; -10.49,4.135 -10.49,4.26 ; -10.49,4.48 -9.85,4.48 ; -10.49,7.535 -10.49,7.815 -10.49,8.16 ; -10.48,-2 -10.48,-8 -9.84,-8 -9.84,-2 ; -9.85,2 -9.85,8.16 ; -9.85,4.135 -9.85,4.26 ; -9.85,7.535 -9.85,7.815 -9.85,8.16 ; -7.95,2 -7.95,8.16 ; -7.95,4.135 -7.95,4.26 ; -7.95,4.48 -7.31,4.48 ; -7.95,7.535 -7.95,7.815 -7.95,8.16 ; -7.94,-2 -7.94,-8 -7.3,-8 -7.3,-2 ; -7.31,2 -7.31,8.16 ; -7.31,4.135 -7.31,4.26 ; -7.31,7.535 -7.31,7.815 -7.31,8.16 ; -5.41,2 -5.41,8.16 ; -5.41,4.135 -5.41,4.26 ; -5.41,4.48 -4.77,4.48 ; -5.41,7.535 -5.41,7.815 -5.41,8.16 ; -5.4,-2 -5.4,-8 -4.76,-8 -4.76,-2 ; -4.77,2 -4.77,8.16 ; -4.77,4.135 -4.77,4.26 ; -4.77,7.535 -4.77,7.815 -4.77,8.16 ; -2.87,2 -2.87,8.16 ; -2.87,4.135 -2.87,4.26 ; -2.87,4.48 -2.23,4.48 ; -2.87,7.535 -2.87,7.815 -2.87,8.16 ; -2.86,-2 -2.86,-8 -2.22,-8 -2.22,-2 ; -2.23,2 -2.23,8.16 ; -2.23,4.135 -2.23,4.26 ; -2.23,7.535 -2.23,7.815 -2.23,8.16 ; -0.33,2 -0.33,8.16 ; -0.33,4.135 -0.33,4.26 ; -0.33,4.48 0.31,4.48 ; -0.33,7.535 -0.33,7.815 -0.33,8.16 ; -0.32,-2 -0.32,-8 0.32,-8 0.32,-2 ; 0.31,2 0.31,8.16 ; 0.31,4.135 0.31,4.26 ; 0.31,7.535 0.31,7.815 0.31,8.16 ; 2.21,2 2.21,8.16 ; 2.21,4.135 2.21,4.26 ; 2.21,4.48 2.85,4.48 ; 2.21,7.535 2.21,7.815 2.21,8.16 ; 2.22,-2 2.22,-8 2.86,-8 2.86,-2 ; 2.85,2 2.85,8.16 ; 2.85,4.135 2.85,4.26 ; 2.85,7.535 2.85,7.815 2.85,8.16 ; 4.75,2 4.75,8.16 ; 4.75,4.135 4.75,4.26 ; 4.75,4.48 5.39,4.48 ; 4.75,7.535 4.75,7.815 4.75,8.16 ; 4.76,-2 4.76,-8 5.4,-8 5.4,-2 ; 5.39,2 5.39,8.16 ; 5.39,4.135 5.39,4.26 ; 5.39,7.535 5.39,7.815 5.39,8.16 ; 7.29,2 7.29,8.16 ; 7.29,4.135 7.29,4.26 ; 7.29,4.48 7.93,4.48 ; 7.29,7.535 7.29,7.815 7.29,8.16 ; 7.3,-2 7.3,-8 7.94,-8 7.94,-2 ; 7.93,2 7.93,8.16 ; 7.93,4.135 7.93,4.26 ; 7.93,7.535 7.93,7.815 7.93,8.16 ; 9.83,2 9.83,8.16 ; 9.83,4.135 9.83,4.26 ; 9.83,4.48 10.47,4.48 ; 9.83,7.535 9.83,7.815 9.83,8.16 ; 9.84,-2 9.84,-8 10.48,-8 10.48,-2 ; 10.47,2 10.47,8.16 ; 10.47,4.135 10.47,4.26 ; 10.47,7.535 10.47,7.815 10.47,8.16 ; 12.37,2 12.37,8.16 ; 12.37,4.135 12.37,4.26 ; 12.37,4.48 13.01,4.48 ; 12.37,7.535 12.37,7.815 12.37,8.16 ; 12.38,-2 12.38,-8 13.02,-8 13.02,-2 ; 13.01,2 13.01,8.16 ; 13.01,4.135 13.01,4.26 ; 13.01,7.535 13.01,7.815 13.01,8.16 ; -13.03,8.16 -12.39,8.16 ; -10.49,8.16 -9.85,8.16 ; -7.95,8.16 -7.31,8.16 ; -5.41,8.16 -4.77,8.16 ; -2.87,8.16 -2.23,8.16 ; -0.33,8.16 0.31,8.16 ; 2.21,8.16 2.85,8.16 ; 4.75,8.16 5.39,8.16 ; 7.29,8.16 7.93,8.16 ; 9.83,8.16 10.47,8.16 ; 12.37,8.16 13.01,8.16 ; -13.97,-2 -13.97,2 13.97,2 13.97,-2 -13.97,-2
Top Courtyard:
  lines w0.05: -14.32,-8.125 14.32,-8.125 14.32,8.87 -14.32,8.87 -14.32,-8.125
Top Component Center:
  lines w0.05: -0.5,0 0.5,0 ; 0,-0.5 0,0.5
3D body "610122249121.stp": height 5.1, standoff -1.38, extent -13.97,-8 13.97,8.16

## 610124249121 [mm] "Pin Header, pitch 2.54 mm, SMD, Angled, dual row, 24p"
height 5.08
pads (26):
  rect 1x2.5 smd: 1(13.97,3.72) 2(13.97,7.42) 3(11.43,3.72) 4(11.43,7.42) 5(8.89,3.72) 6(8.89,7.42) 7(6.35,3.72) 8(6.35,7.42) 9(3.81,3.72) 10(3.81,7.42) 11(1.27,3.72) 12(1.27,7.42) 13(-1.27,3.72) 14(-1.27,7.42) 15(-3.81,3.72) 16(-3.81,7.42) 17(-6.35,3.72) 18(-6.35,7.42) 19(-8.89,3.72) 20(-8.89,7.42) 21(-11.43,3.72) 22(-11.43,7.42) 23(-13.97,3.72) 24(-13.97,7.42)
  round 1.8 hole 1.8 unplated: MH1(12.7,-0.73) MH2(-12.7,-0.73)
Top Overlay:
  circle w0.25: c15.03,3.7 r0.125
  lines w0.2: -14.29,-2.075 -14.29,-8 -13.65,-8 -13.65,-2.075 ; -11.75,-2.075 -11.75,-8 -11.11,-8 -11.11,-2.075 ; -9.21,-2.075 -9.21,-8 -8.57,-8 -8.57,-2.075 ; -6.67,-2.075 -6.67,-8 -6.03,-8 -6.03,-2.075 ; -4.13,-2.075 -4.13,-8 -3.49,-8 -3.49,-2.075 ; -1.59,-2.075 -1.59,-8 -0.95,-8 -0.95,-2.075 ; 0.95,-2.075 0.95,-8 1.59,-8 1.59,-2.075 ; 3.49,-2.075 3.49,-8 4.13,-8 4.13,-2.075 ; 6.03,-2.075 6.03,-8 6.67,-8 6.67,-2.075 ; 8.57,-2.075 8.57,-8 9.21,-8 9.21,-2.075 ; 11.11,-2.075 11.11,-8 11.75,-8 11.75,-2.075 ; 13.65,-2.075 13.65,-8 14.29,-8 14.29,-2.075 ; -15.39,-2.075 -15.39,2.075 15.39,2.075 15.39,-2.075 -15.39,-2.075
Top Designator:
  text ".Designator" at -7.498,-0.5 h1.5
Top Component Outline:
  drawing of 160 lines, arcs and shapes, not listed
Top Courtyard:
  lines w0.05: -15.59,-8.125 -15.59,8.87 15.59,8.87 15.59,-8.125 -15.59,-8.125
Top Component Center:
  lines w0.05: -0.5,0 0.5,0 ; 0,-0.5 0,0.5
3D body "610124249121.stp": height 5.1, standoff -1.38, extent -15.24,-8 15.24,8.16

## 610126249121 [mm] "Pin Header, pitch 2.54 mm, SMD, Angled, dual row, 26p"
height 5.08
pads (28):
  rect 1x2.5 smd: 1(15.24,3.72) 2(15.24,7.42) 3(12.7,3.72) 4(12.7,7.42) 5(10.16,3.72) 6(10.16,7.42) 7(7.62,3.72) 8(7.62,7.42) 9(5.08,3.72) 10(5.08,7.42) 11(2.54,3.72) 12(2.54,7.42) 13(0,3.72) 14(0,7.42) 15(-2.54,3.72) 16(-2.54,7.42) 17(-5.08,3.72) 18(-5.08,7.42) 19(-7.62,3.72) 20(-7.62,7.42) 21(-10.16,3.72) 22(-10.16,7.42) 23(-12.7,3.72) 24(-12.7,7.42) 25(-15.24,3.72) 26(-15.24,7.42)
  round 1.8 hole 1.8 unplated: MH1(13.97,-0.73) MH2(-13.97,-0.73)
Top Overlay:
  circle w0.25: c16.3,3.7 r0.125
  lines w0.2: -15.56,-2.075 -15.56,-8 -14.92,-8 -14.92,-2.075 ; -13.02,-2.075 -13.02,-8 -12.38,-8 -12.38,-2.075 ; -10.48,-2.075 -10.48,-8 -9.84,-8 -9.84,-2.075 ; -7.94,-2.075 -7.94,-8 -7.3,-8 -7.3,-2.075 ; -5.4,-2.075 -5.4,-8 -4.76,-8 -4.76,-2.075 ; -2.86,-2.075 -2.86,-8 -2.22,-8 -2.22,-2.075 ; -0.32,-2.075 -0.32,-8 0.32,-8 0.32,-2.075 ; 2.22,-2.075 2.22,-8 2.86,-8 2.86,-2.075 ; 4.76,-2.075 4.76,-8 5.4,-8 5.4,-2.075 ; 7.3,-2.075 7.3,-8 7.94,-8 7.94,-2.075 ; 9.84,-2.075 9.84,-8 10.48,-8 10.48,-2.075 ; 12.38,-2.075 12.38,-8 13.02,-8 13.02,-2.075 ; 14.92,-2.075 14.92,-8 15.56,-8 15.56,-2.075 ; -16.66,-2.075 16.66,-2.075 16.66,2.075 -16.66,2.075 -16.66,-2.075
Top Designator:
  text ".Designator" at -7.498,-0.5 h1.5
Top Component Outline:
  drawing of 173 lines, arcs and shapes, not listed
Top Courtyard:
  lines w0.05: -16.86,-8.125 16.86,-8.125 16.86,8.87 -16.86,8.87 -16.86,-8.125
Top Component Center:
  lines w0.05: -0.5,0 0.5,0 ; 0,-0.5 0,0.5
3D body "610126249121.stp": height 5.1, standoff -1.38, extent -16.51,-8 16.51,8.16

## 621004245821 [mm] "Pin Header, pitch 2.00 mm, SMD, Vertical, dual row, 4p"
height 4.8
pads (4):
  rect 0.89x2.75 smd: 1(-1,-2.375) 2(-1,2.375) 3(1,-2.375) 4(1,2.375)
Top Overlay:
  circle w0.25: c-1.985,-2.776 r0.125
  lines w0.2: -1.75,-2.125 -2.2,-2.125 -2.2,2.125 -1.75,2.125 ; 1.75,-2.125 2.2,-2.125 2.2,2.125 1.75,2.125
Top Designator:
  text ".Designator" at -7.498,-0.5 h1.5
Top Component Outline:
  lines w0.1: -1.25,-2 -1.25,-3.1 -0.75,-3.1 -0.75,-2 ; -1.25,2 -1.25,3.1 -0.75,3.1 -0.75,2 ; 0.75,-2 0.75,-3.1 1.25,-3.1 1.25,-2 ; 0.75,2 0.75,3.1 1.25,3.1 1.25,2 ; -2,-2 -2,2 2,2 2,-2 -2,-2
Top Courtyard:
  lines w0.05: -2.4,-3.95 -2.4,3.95 2.4,3.95 2.4,-3.95 -2.4,-3.95
Top Component Center:
  lines w0.05: -0.5,0 0.5,0 ; 0,-0.5 0,0.5
3D body "621004245821.stp": height 4.7, standoff 0, extent -2,-3.1 2,3.1

## 621006245821 [mm] "Pin Header, pitch 2.00 mm, SMD, Vertical, dual row, 6p"
height 4.8
pads (6):
  rect 0.89x2.75 smd: 1(-2,-2.375) 2(-2,2.375) 3(0,-2.375) 4(0,2.375) 5(2,-2.375) 6(2,2.375)
Top Overlay:
  circle w0.25: c-2.985,-2.776 r0.125
  lines w0.2: -2.75,-2.125 -3.2,-2.125 -3.2,2.125 -2.75,2.125 ; 2.75,-2.125 3.2,-2.125 3.2,2.125 2.75,2.125
Top Designator:
  text ".Designator" at -7.498,-0.5 h1.5
Top Component Outline:
  lines w0.1: -2.25,-2 -2.25,-3.1 -1.75,-3.1 -1.75,-2 ; -2.25,2 -2.25,3.1 -1.75,3.1 -1.75,2 ; -0.25,-2 -0.25,-3.1 0.25,-3.1 0.25,-2 ; -0.25,2 -0.25,3.1 0.25,3.1 0.25,2 ; 1.75,-2 1.75,-3.1 2.25,-3.1 2.25,-2 ; 1.75,2 1.75,3.1 2.25,3.1 2.25,2 ; -3,-2 3,-2 3,2 -3,2 -3,-2
Top Courtyard:
  lines w0.05: -3.4,-3.95 3.4,-3.95 3.4,3.95 -3.4,3.95 -3.4,-3.95
Top Component Center:
  lines w0.05: -0.5,0 0.5,0 ; 0,-0.5 0,0.5
3D body "621006245821.stp": height 4.7, standoff 0, extent -3,-3.1 3,3.1

## 621008245821 [mm] "Pin Header, pitch 2.00 mm, SMD, Vertical, dual row, 8p"
height 4.8
pads (8):
  rect 0.89x2.75 smd: 1(-3,-2.375) 2(-3,2.375) 3(-1,-2.375) 4(-1,2.375) 5(1,-2.375) 6(1,2.375) 7(3,-2.375) 8(3,2.375)
Top Overlay:
  circle w0.25: c-3.985,-2.776 r0.125
  lines w0.2: -3.75,-2.125 -4.2,-2.125 -4.2,2.125 -3.75,2.125 ; 3.75,-2.125 4.2,-2.125 4.2,2.125 3.75,2.125
Top Designator:
  text ".Designator" at -7.498,-0.5 h1.5
Top Component Outline:
  lines w0.1: -3.25,-2 -3.25,-3.1 -2.75,-3.1 -2.75,-2 ; -3.25,2 -3.25,3.1 -2.75,3.1 -2.75,2 ; -1.25,-2 -1.25,-3.1 -0.75,-3.1 -0.75,-2 ; -1.25,2 -1.25,3.1 -0.75,3.1 -0.75,2 ; 0.75,-2 0.75,-3.1 1.25,-3.1 1.25,-2 ; 0.75,2 0.75,3.1 1.25,3.1 1.25,2 ; 2.75,-2 2.75,-3.1 3.25,-3.1 3.25,-2 ; 2.75,2 2.75,3.1 3.25,3.1 3.25,2 ; -4,-2 4,-2 4,2 -4,2 -4,-2
Top Courtyard:
  lines w0.05: -4.4,-3.95 4.4,-3.95 4.4,3.95 -4.4,3.95 -4.4,-3.95
Top Component Center:
  lines w0.05: -0.5,0 0.5,0 ; 0,-0.5 0,0.5
3D body "621008245821.stp": height 4.7, standoff 0, extent -4,-3.1 4,3.1